# Altium footprint library WCAP-ATG5.PcbLib: 23 footprints (part 2 of 2)
Each footprint in its own frame and in the unit in brackets; x right, y up, seen from the top. Pads: shape width x height; smd on the part's side, far side on the other; paste and mask are expansions set on the pad; w line width, h text height; cw(c..) or ccw(c..) is an arc to the next point about the centre after c.
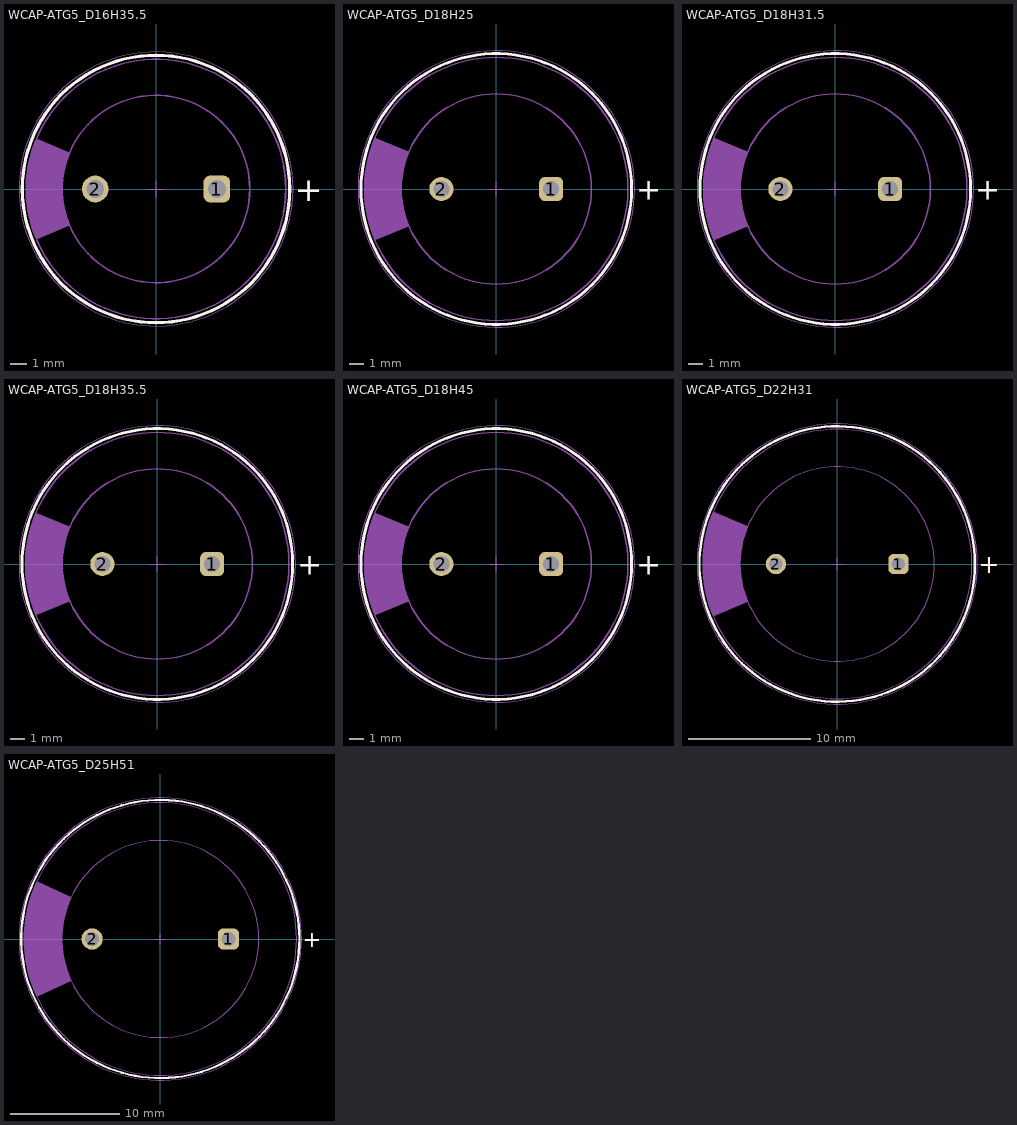
[diagram p1: the footprints below, top view; thin cyan lines are the x and y axes]

## WCAP-ATG5_D16H35.5 [mm] "Aluminum Electrolytic Capacitors, 16x35.5mm"
height 35.5
pads (2):
  rrect50% 1.65x1.65 hole 1.1: 1(3.75,0)
  round 1.65 hole 1.1: 2(-3.75,0)
Top Overlay:
  circle w0.2: c0,0 r8.25
  text "+" at 8.55,-0.75 h1.5
Top Designator:
  text ".Designator" at -7.498,-0.5 h1.5
Top Component Outline:
  circle w0.1: c0,0 r5.78
  circle w0.1: c0,0 r8
  region: -7.369,-3.114 -5.324,-2.25 -5.325,-2.248 -5.431,-1.979 -5.601,-1.428 -5.715,-0.863 -5.773,-0.288 -5.773,0.288 -5.715,0.863 -5.601,1.428 -5.431,1.979 -5.325,2.248 -5.324,2.25 -7.369,3.114 -7.525,2.745 -7.761,1.98 -7.92,1.196 -8,0.4 -8,-0.4 -7.92,-1.196 -7.761,-1.98 -7.525,-2.745
Top Courtyard:
  circle w0.05: c0,0 r8.45
  lines w0.05: -0.5,0 0.5,0 ; 0,-0.5 0,0.5
3D body "16x35.5x7.5x0.8.stp": height 35.81, standoff -19.91, extent -7.99,-7.999 8,7.999

## WCAP-ATG5_D18H25 [mm] "Aluminum Electrolytic Capacitors, 18x25mm"
height 25
pads (2):
  rrect50% 1.65x1.65 hole 1.1: 1(3.75,0)
  round 1.65 hole 1.1: 2(-3.75,0)
Top Overlay:
  circle w0.2: c0,0 r9.25
  text "+" at 9.55,-0.75 h1.5
Top Designator:
  text ".Designator" at -7.498,-0.5 h1.5
Top Component Outline:
  circle w0.1: c0,0 r6.5
  circle w0.1: c0,0 r9
  region: -8.291,-3.501 -5.985,-2.536 -5.986,-2.533 -6.105,-2.23 -6.298,-1.609 -6.427,-0.972 -6.492,-0.325 -6.492,0.325 -6.427,0.972 -6.298,1.609 -6.105,2.23 -5.986,2.533 -5.985,2.536 -8.291,3.501 -8.466,3.086 -8.732,2.227 -8.91,1.345 -9,0.45 -9,-0.45 -8.91,-1.345 -8.732,-2.227 -8.466,-3.086
Top Courtyard:
  circle w0.05: c0,0 r9.45
  lines w0.05: -0.5,0 0.5,0 ; 0,-0.5 0,0.5
3D body "18x25x7.5x0.8.stp": height 25.31, standoff -19.91, extent -8.99,-9 9,9

## WCAP-ATG5_D18H31.5 [mm] "Aluminum Electrolytic Capacitors, 18x31.5mm"
height 31.5
pads (2):
  rrect50% 1.65x1.65 hole 1.1: 1(3.75,0)
  round 1.65 hole 1.1: 2(-3.75,0)
Top Overlay:
  circle w0.2: c0,0 r9.25
  text "+" at 9.55,-0.75 h1.5
Top Designator:
  text ".Designator" at -7.498,-0.5 h1.5
Top Component Outline:
  circle w0.1: c0,0 r9
  circle w0.1: c0,0 r6.5
  region: -8.291,-3.501 -5.985,-2.536 -5.986,-2.533 -6.105,-2.23 -6.298,-1.609 -6.427,-0.972 -6.492,-0.325 -6.492,0.325 -6.427,0.972 -6.298,1.609 -6.105,2.23 -5.986,2.533 -5.985,2.536 -8.291,3.501 -8.466,3.086 -8.732,2.227 -8.91,1.345 -9,0.45 -9,-0.45 -8.91,-1.345 -8.732,-2.227 -8.466,-3.086
Top Courtyard:
  circle w0.05: c0,0 r9.45
  lines w0.05: -0.5,0 0.5,0 ; 0,-0.5 0,0.5
3D body "18x31.5x7.5x0.8.stp": height 31.81, standoff -19.94, extent -8.99,-9 9,9

## WCAP-ATG5_D18H35.5 [mm] "Aluminum Electrolytic Capacitors, 18x35.5mm"
height 35.5
pads (2):
  rrect50% 1.65x1.65 hole 1.1: 1(3.75,0)
  round 1.65 hole 1.1: 2(-3.75,0)
Top Overlay:
  circle w0.2: c0,0 r9.25
  text "+" at 9.55,-0.75 h1.5
Top Designator:
  text ".Designator" at -7.498,-0.5 h1.5
Top Component Outline:
  circle w0.1: c0,0 r6.5
  circle w0.1: c0,0 r9
  region: -8.291,-3.501 -5.985,-2.536 -5.986,-2.533 -6.105,-2.23 -6.298,-1.609 -6.427,-0.972 -6.492,-0.325 -6.492,0.325 -6.427,0.972 -6.298,1.609 -6.105,2.23 -5.986,2.533 -5.985,2.536 -8.291,3.501 -8.466,3.086 -8.732,2.227 -8.91,1.345 -9,0.45 -9,-0.45 -8.91,-1.345 -8.732,-2.227 -8.466,-3.086
Top Courtyard:
  circle w0.05: c0,0 r9.45
  lines w0.05: -0.5,0 0.5,0 ; 0,-0.5 0,0.5
3D body "18x35.5x7.5x0.8.stp": height 35.81, standoff -19.91, extent -8.99,-8.997 9,8.997

## WCAP-ATG5_D18H45 [mm] "Aluminum Electrolytic Capacitors, 18x45mm"
height 45
pads (2):
  rrect50% 1.65x1.65 hole 1.1: 1(3.75,0)
  round 1.65 hole 1.1: 2(-3.75,0)
Top Overlay:
  circle w0.2: c0,0 r9.25
  text "+" at 9.55,-0.75 h1.5
Top Designator:
  text ".Designator" at -7.498,-0.5 h1.5
Top Component Outline:
  circle w0.1: c0,0 r6.5
  circle w0.1: c0,0 r9
  region: -8.291,-3.501 -5.985,-2.536 -5.986,-2.533 -6.105,-2.23 -6.298,-1.609 -6.427,-0.972 -6.492,-0.325 -6.492,0.325 -6.427,0.972 -6.298,1.609 -6.105,2.23 -5.986,2.533 -5.985,2.536 -8.291,3.501 -8.466,3.086 -8.732,2.227 -8.91,1.345 -9,0.45 -9,-0.45 -8.91,-1.345 -8.732,-2.227 -8.466,-3.086
Top Courtyard:
  circle w0.05: c0,0 r9.45
  lines w0.05: -0.5,0 0.5,0 ; 0,-0.5 0,0.5
3D body "18x45x7.5x0.8.stp": height 45.31, standoff -19.91, extent -8.99,-9 9,9

## WCAP-ATG5_D22H31 [mm] "Aluminum Electrolytic Capacitors, 22x31mm"
height 31
pads (2):
  rrect50% 1.65x1.65 hole 1.1: 1(5,0)
  round 1.65 hole 1.1: 2(-5,0)
Top Overlay:
  circle w0.2: c0,0 r11.25
  text "+" at 11.55,-0.75 h1.5
Top Designator:
  text ".Designator" at -7.498,-0.5 h1.5
Top Component Outline:
  circle w0.1: c0,0 r7.94
  circle w0.1: c0,0 r11
  region: -10.135,-4.275 -7.31,-3.099 -7.312,-3.094 -7.458,-2.725 -7.693,-1.966 -7.851,-1.187 -7.93,-0.397 -7.93,0.397 -7.851,1.187 -7.693,1.966 -7.458,2.725 -7.312,3.094 -7.31,3.099 -10.135,4.275 -10.277,3.938 -10.517,3.246 -10.709,2.54 -10.854,1.822 -10.951,1.097 -11,0.366 -11,-0.366 -10.951,-1.097 -10.854,-1.822 -10.709,-2.54 -10.517,-3.246 -10.277,-3.938
Top Courtyard:
  circle w0.05: c0,0 r11.45
  lines w0.05: -0.5,0 0.5,0 ; 0,-0.5 0,0.5
3D body "22x31x10x0.8.stp": height 31.31, standoff -19.95, extent -10.99,-11 10.909,10.941

## WCAP-ATG5_D25H51 [mm] "Aluminum Electrolytic Capacitors, 25x51mm"
height 51
pads (2):
  rrect50% 1.95x1.95 hole 1.3: 1(6.25,0)
  round 1.95 hole 1.3: 2(-6.25,0)
Top Overlay:
  circle w0.2: c0,0 r12.75
  text "+" at 13.05,-0.75 h1.5
Top Designator:
  text ".Designator" at -7.498,-0.5 h1.5
Top Component Outline:
  circle w0.1: c0,0 r12.5
  circle w0.1: c0,0 r9.03
  region: -11.326,-5.288 -11.519,-4.876 -11.843,-4.025 -12.104,-3.153 -12.302,-2.264 -12.434,-1.363 -12.5,-0.455 -12.5,0.456 -12.434,1.364 -12.302,2.265 -12.104,3.154 -11.843,4.026 -11.519,4.877 -11.326,5.289 -11.316,5.282 -8.18,3.82 -8.182,3.821 -8.315,3.52 -8.55,2.906 -8.738,2.277 -8.881,1.635 -8.976,0.984 -9.024,0.329 -9.024,-0.329 -8.976,-0.984 -8.881,-1.635 -8.738,-2.277 -8.55,-2.906 -8.315,-3.52 -8.182,-3.821 -8.18,-3.82
Top Courtyard:
  circle w0.05: c0,0 r12.95
  lines w0.05: -0.5,0 0.5,0 ; 0,-0.5 0,0.5
3D body "STP_25x51x12,5x1 (rev1).stp": height 51.11, standoff -19.91, extent -12.49,-12.497 12.5,12.471